# Altium integrated library ECE453-MCU.IntLib: 28 symbols (part 1 of 2)
Pins are listed as number, name and electrical type; pins without a type are passive.

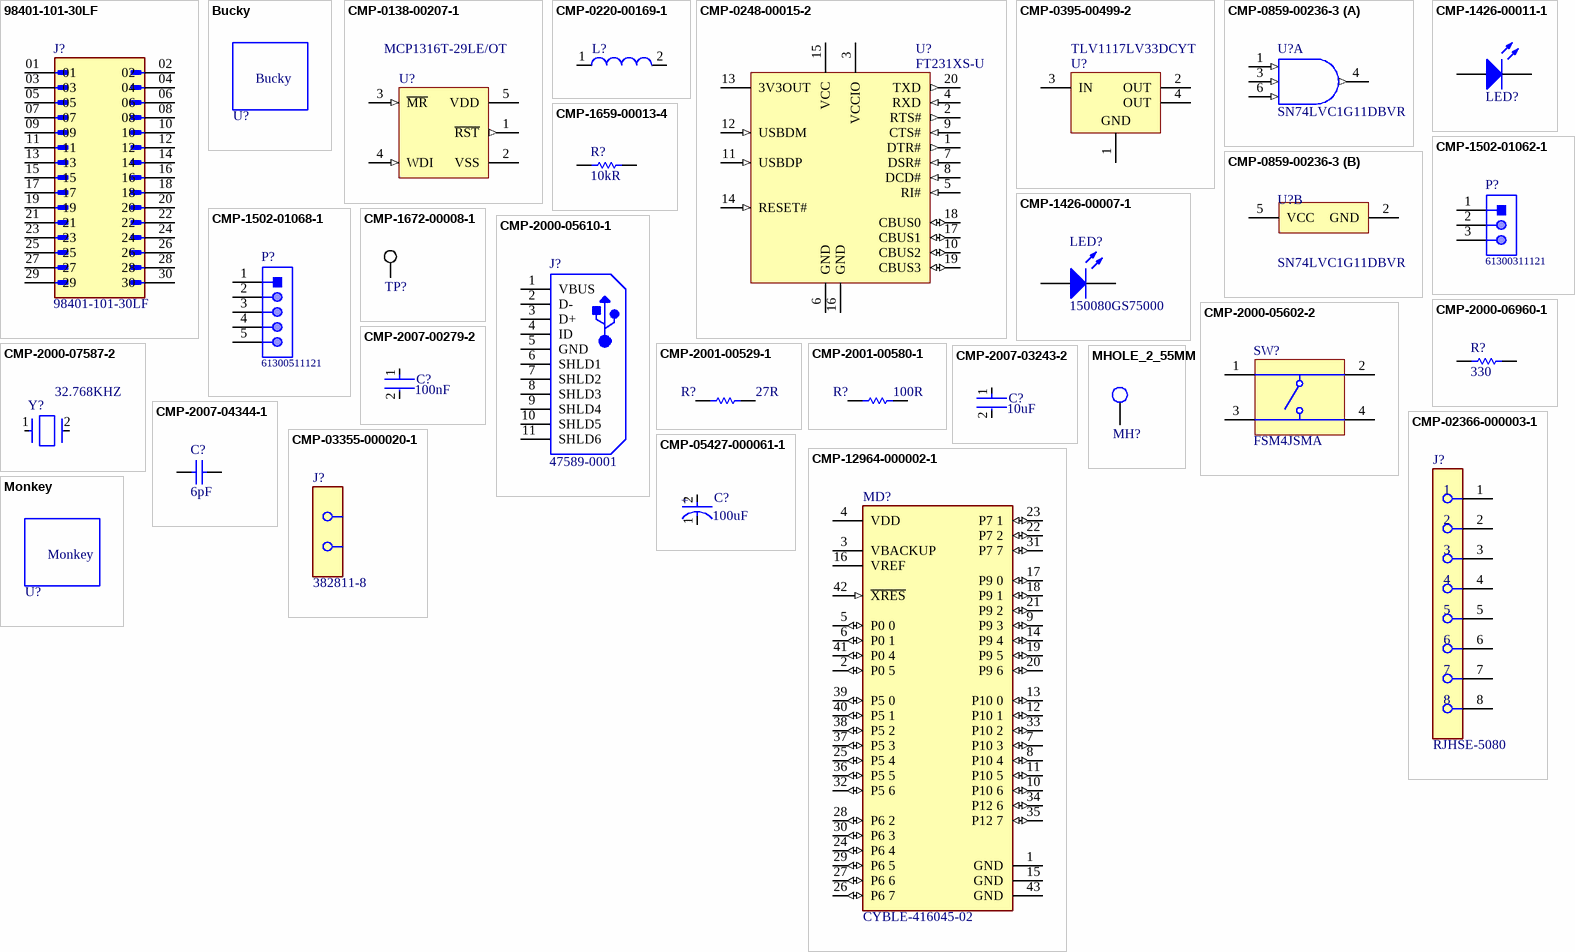
[diagram p0: symbols 98401-101-30LF to Monkey]

## 98401-101-30LF
designator J?
Conn Unshrouded Header HDR 30 POS 2.54mm Solder ST SMD T/R; Manufacturer 1: Amphenol ICC / FCI; Manufacturer Part Number: 95278-101A30LF; MF: Amphenol ICC (FCI); Number of Contacts: 30; Max Voltage Rating (AC): 1.5kV; Current Rating: 3A; Insulation Resistance: 5GR; Row Spacing: 0.1inch; Gender: Male; Package: None; Price: None; Value: *; MP: 98401-101-30LF; Availability: Unavailable; Supplier 1: Digi-Key; Supplier Part Number 1: 98401-101-30LF-ND; Manufacturer Part Number 1: 98401-101-30LF; RoHS: Yes; Category: Headers and Wire Housings; Pricing 1: 400=1.30895 (USD); Mount: Surface Mount; Contact Plating: Gold,GXT; Contact Material: Bronze; Color: Black; Housing Color: Black; Housing Material: Thermoplastic; Min Operating Temperature: -65°C; Max Operating Temperature: 125°C; Number of Rows: 2; Termination: Solder; Package Quantity: 200; Packaging: Bulk; Number of Positions: 30; Orientation: Straight; Series: BERGSTIK®, MezzSelect™, Basics+; Voltage Rating: 1.5kV; Contact Gender: Male; Contact Type: Male Pin; Length: 38.1mm; Pitch: 2.54mm; Depth: 4.83mm; Contact Mating Length: 0.23inch; RoHS Compliant: Yes; Flammability Rating: UL94 V-0; ComponentLink1URL: https://datasheet.ciiva.com/5168/98401-274167-5168660.pdf?src-supplier=Mouser; ComponentLink1Description: https://datasheet.ciiva.com/5168/98401-274167-5168660.pdf?src-supplier=Mouser; ComponentLink2URL: https://datasheet.ciiva.com/10120/98401-10120570.pdf?src-supplier=Avnet; ComponentLink2Description: https://datasheet.ciiva.com/10120/98401-10120570.pdf?src-supplier=Avnet; ComponentLink3URL: https://datasheet.ciiva.com/724/98401-724961.pdf?src-supplier=Digi-Key; ComponentLink3Description: https://datasheet.ciiva.com/724/98401-724961.pdf?src-supplier=Digi-Key; Supplier: Newark; Supplier Part Number: 63K1615; Manufacturer: Amphenol ICC / FCI; Pricing: 370=1.45, 1000=1.44, 2000=1.39, 4000=1.32, 6000=1.3, 10000=1.28 (USD); Mounting Technology: Surface Mount; ComponentLink4URL: https://datasheet.ciiva.com/724/95278-724949.pdf?src-supplier=Digi-Key; ComponentLink4Description: https://datasheet.ciiva.com/724/95278-724949.pdf?src-supplier=Digi-Key
footprint AMPHENOL_98401-101-30LF
pins: 01, 02, 03, 04, 05, 06, 07, 08, 09, 10, 11, 12, 13, 14, 15, 16, 17, 18, 19, 20, 21, 22, 23, 24, 25, 26, 27, 28, 29, 30

## Bucky
designator U?  (value not drawn)  (no BOM)
Bucky Badger Image; Manufacturer Part Number: UW Bucky
footprint WalkingBucky

## CMP-0138-00207-1
designator U?, comment MCP1316T-29LE/OT
Voltage Supervisor, 5-Pin SOT-23, Extended Temperature, Tape and Reel; Manufacturer: Microchip; Min Supply Voltage: 1V; Max Supply Voltage: 5.5V; Number of Voltages Monitored: 1; Overvoltage Threshold: 2.944V; Undervoltage Threshold: 2.857V; Operating Supply Current: 10uA; Reset: Active Low; Reset Timeout: 140ms; Threshold Voltage: 2.9V; Watchdog Timer: Yes; Quiescent Current: 1uA; Max Output current: 10mA; Max Power Dissipation: 240mW; Output: TOTEM-POLE; PackageReference: SOT-23-OT5; Code_IPC: SOT23-5; DatasheetVersion: revB, Oct-2007; PackageDescription: 5-Lead Plastic Small Outline Transistor (OT) [SOT-23]; PackageVersion: revBB, Aug-2009; Supplier: Newark; Supplier Part Number: 34M7402; Manufacturer Part Number: MCP1316T-29LE/OT; RoHS: Yes; Category: Voltage Supervisors; Stock: 8598; Pricing: 1=0.877, 10=0.805, 25=0.732 (USD); Mounting Technology: Surface Mount; Case/Package: SOT-23; Pins: 5; Min Operating Temperature: -40°C; Max Operating Temperature: 125°C; Packaging: Tape and Reel; Type: Simple Reset/Power-On Reset; Package Quantity: 3000; Max Supply Current: 10uA; Max Reset Threshold Voltage: 2.944V; Min Reset Threshold Voltage: 2.857V; Supply Current: 10uA; Number of Elements: 1; Power Dissipation: 240mW; Termination: SMD/SMT; Length: 3.1mm; Width: 1.8mm; Height: 1.3mm; Radiation Hardening: No; Reach SVHC Compliant: No; Lead Free: Lead Free; RoHS Compliant: Yes; ComponentLink1URL: https://datasheet.ciiva.com/1969/21985d-1969832.pdf?src-supplier=Digi-Key; ComponentLink1Description: https://datasheet.ciiva.com/1969/21985d-1969832.pdf?src-supplier=Digi-Key; ComponentLink2URL: https://datasheet.ciiva.com/1969/21985d-1969833.pdf?src-supplier=Digi-Key; ComponentLink2Description: https://datasheet.ciiva.com/1969/21985d-1969833.pdf?src-supplier=Digi-Key; ComponentLink3URL: https://datasheet.ciiva.com/14562/70045388-14562791.pdf?src-supplier=Allied+Electronics; ComponentLink3Description: https://datasheet.ciiva.com/14562/70045388-14562791.pdf?src-supplier=Allied+Electronics; ComponentLink4URL: https://datasheet.ciiva.com/8140/21985c-8140440.pdf?src-supplier=Avnet; ComponentLink4Description: https://datasheet.ciiva.com/8140/21985c-8140440.pdf?src-supplier=Avnet
footprint SOT-23-OT5_M (SOT23, 5-Leads, Body 2.9x1.6mm, Pitch 0.95mm, Lead Span 2.7mm, IPC Low Density)
footprint SOT-23-OT5_N (SOT23, 5-Leads, Body 2.9x1.6mm, Pitch 0.95mm, Lead Span 2.7mm, IPC Medium Density)
footprint SOT-23-OT5_L (SOT23, 5-Leads, Body 2.9x1.6mm, Pitch 0.95mm, Lead Span 2.7mm, IPC High Density)
pins: 1 ~{RST} (out), 2 VSS (power), 3 ~{MR} (in), 4 WDI (in), 5 VDD (power)

## CMP-0220-00169-1
designator L?, comment 742792093  (value not drawn)
SMD EMI Suppression Ferrite Bead WE-CBF, Z = 2200 Ohm; Manufacturer: Wurth Electronics; Current Rating: 200mA; Tolerance: 25%; Number of Lines: 1; DC Resistance (DCR): 600mR; Test Frequency: 100MHz; Value: 3.9nH; Shielding: Unshielded; DatasheetVersion: Dec-2005; ComponentLink2URL: http://www.we-online.de/katalog/media/pdf/742792093.pdf; PackageDescription: Chip Inductor, 2-Leads, Body 2.0 x 1.2 mm; Impedance: 2200 Ohm; ComponentLink2Description: Datasheet; ComponentLink1Description: Manufacturer Link; PackageReference: SMD-0805; ComponentLink1URL: http://www.we-online.com; PackageVersion: 2005; Supplier: Newark; Supplier Part Number: 24AC5609; Manufacturer Part Number: 742792093; RoHS: Yes; Category: Ferrite Beads and Chips; Stock: 32000; Pricing: 1=0.145, 4000=0.145 (USD); Mounting Technology: Surface Mount; Case/Package: SMD/SMT; Case Code (Metric): 2012; Case Code (Imperial): 0805; Core Material: Ferrite; Weight: 0.000388oz; Min Operating Temperature: -55°C; Max Operating Temperature: 125°C; Package Quantity: 1; Packaging: Tape and Reel; Max Current Rating: 200mA; Max DC Current: 200mA; Termination: SMD/SMT; Series: WE-CBF; Length: 2mm; Width: 1.2mm; Height: 0.9mm; Depth: 1.2mm; RoHS Compliant: Yes; Reach SVHC Compliant: Unknown; Lead Free: Lead Free; ComponentLink3URL: https://datasheet.ciiva.com/1475/742792093-1475025.pdf?src-supplier=Farnell; ComponentLink3Description: https://datasheet.ciiva.com/1475/742792093-1475025.pdf?src-supplier=Farnell; ComponentLink4URL: https://datasheet.ciiva.com/1013/742792093-1013376.pdf?src-supplier=Digi-Key; ComponentLink4Description: https://datasheet.ciiva.com/1013/742792093-1013376.pdf?src-supplier=Digi-Key; ComponentLink5URL: https://datasheet.ciiva.com/4940/742792093-88569-4940476.pdf?src-supplier=Mouser; ComponentLink5Description: https://datasheet.ciiva.com/4940/742792093-88569-4940476.pdf?src-supplier=Mouser; ComponentLink6URL: https://datasheet.ciiva.com/11799/0900766b80bbd134-11799557.pdf?src-supplier=Rs; ComponentLink6Description: https://datasheet.ciiva.com/11799/0900766b80bbd134-11799557.pdf?src-supplier=Rs; ComponentLink7URL: https://datasheet.ciiva.com/14122/742792093-eng-tds-14122810.pdf?src-supplier=Distrelec; ComponentLink7Description: https://datasheet.ciiva.com/14122/742792093-eng-tds-14122810.pdf?src-supplier=Distrelec
footprint SMD-0805 (Chip Inductor, 2-Leads, Body 2.0x1.2x1.1 mm)
pins: 1, 2

## CMP-0248-00015-2
designator U?, comment FT231XS-U
USB to Full-Handshake UART Interface Chip, UHCI/OHCI/EHCI Compatible, USB 2.0 Compatible, -40 to +85 degC, 20-Pin SSOP, Pb-Free, Tube; Manufacturer: FTDI; Manufacturer Part Number: FT231XS-R; Interface: UART,USB; Number of Channels: 1; Max Supply Voltage: 5.5V; Min Supply Voltage: 2.97V; Operating Supply Voltage: 5V; Data Rate: 12Mbps; Operating Supply Current: 8mA; Supplier: Newark; Supplier Part Number: 83T7089; RoHS: Yes; Category: Interface ICs; Stock: 31663; Pricing: 1=3.09, 25=2.65, 100=2.58, 250=2.33 (USD); Mounting Technology: Surface Mount; Case/Package: SSOP; Pins: 20; Weight: 0.016oz; Min Operating Temperature: -40°C; Max Operating Temperature: 85°C; Packaging: Tape and Reel; Series: USBmadeEZ-UART, FT-X, X-Chip; Package Quantity: 1; Length: 8.74mm; Width: 0.157inch; Height: 0.059inch; Radiation Hardening: No; RoHS Compliant: Yes; ComponentLink1URL: https://datasheet.ciiva.com/30478/0900766b811020d3-30478147.pdf?src-supplier=Rs; ComponentLink1Description: https://datasheet.ciiva.com/30478/0900766b811020d3-30478147.pdf?src-supplier=Rs; ComponentLink2URL: https://datasheet.ciiva.com/1787/ft-x-series-1787028.pdf?src-supplier=Digi-Key; ComponentLink2Description: https://datasheet.ciiva.com/1787/ft-x-series-1787028.pdf?src-supplier=Digi-Key; ComponentLink3URL: https://datasheet.ciiva.com/1787/ft-x-series-1787029.pdf?src-supplier=Digi-Key; ComponentLink3Description: https://datasheet.ciiva.com/1787/ft-x-series-1787029.pdf?src-supplier=Digi-Key; ComponentLink4URL: https://datasheet.ciiva.com/1787/ft-x-series-1787030.pdf?src-supplier=Digi-Key; ComponentLink4Description: https://datasheet.ciiva.com/1787/ft-x-series-1787030.pdf?src-supplier=Digi-Key; ComponentLink5URL: https://datasheet.ciiva.com/48909/70403932-48909078.pdf?src-supplier=Allied+Electronics; ComponentLink5Description: https://datasheet.ciiva.com/48909/70403932-48909078.pdf?src-supplier=Allied+Electronics; Manufacturer Part Number: FT231XS-U
footprint SSOP-20_L (SOP, 20-Leads, Body 8.6x3.9mm, Pitch 0.635mm, IPC High Density)
footprint SSOP-20_M (SOP, 20-Leads, Body 8.6x3.9mm, Pitch 0.635mm, IPC Low Density)
footprint SSOP-20_N (SOP, 20-Leads, Body 8.6x3.9mm, Pitch 0.635mm, IPC Medium Density)
pins: 1 DTR# (out) "Data Terminal Ready Control Output / Handshake Signal.", 2 RTS# (out) "Request to Send Control Output / Handshake Signal.", 3 VCCIO (power) "1V8 -3V3 supply for the IO cells.", 4 RXD (in) "Receiving Asynchronous Data Input.", 5 RI# (in) "Ring Indicator input for remote wake up.", 6 GND (power) "0V Ground input.", 7 DSR# (in) "Data Set Ready Control Input / Handshake Signal.", 8 DCD# (in) "Data Carrier Detect Control Input.", 9 CTS# (in) "Clear To Send Control Input / Handshake Signal.", 10 CBUS2 (io) "Configurable CBUS I/O Pin. Function of this pin is configured in the device MTP memory. The default configuration is TXLED#.", 11 USBDP (in) "USB Data Signal Plus.", 12 USBDM (in) "USB Data Signal Minus.", 13 3V3OUT (power) "3V3 output at 50mA. May be used to power VCCIO. When VCC is 3V3, pin 13 is an input pin.", 14 RESET# (in) "Reset input (active low).", 15 VCC (power) "5 V (or 3V3) supply to IC.", 16 GND (power) "0V Ground input.", 17 CBUS1 (io) "Configurable CBUS I/O Pin. Function of this pin is configured in the device MTP memory. The default configuration is RXLED#.", 18 CBUS0 (io) "Configurable CBUS I/O Pin. Function of this pin is configured in the device MTP memory. The default configuration is TXDEN.", 19 CBUS3 (io) "Configurable CBUS I/O Pin. Function of this pin is configured in the device MTP memory. The default configuration is SLEEP#.", 20 TXD (out) "Transmit Asynchronous Data Output."

## CMP-0395-00499-2
designator U?, comment TLV1117LV33DCYT
Single Output LDO, 1 A, Fixed 3.3 V Output, 2 to 5.5 V Input, 4-pin SOT-223 (DCY), -40 to 125 degC, Green (RoHS & no Sb/Br); Manufacturer: Texas Instruments; Manufacturer Part Number: TLV1117-33CDCYR; Vout Adj(Max)(V): 3.3; Iout(Max)(A): 1; SubFamily: Single Channel LDO; Iq(Typ)(mA): 0.05; Accuracy(%): 2; Vin(Max)(V): 5.5; Vdo(Typ)(mV): 1200; Max Power Dissipation: 1.59W; Dropout Voltage: 455mV; Output Voltage: 3.3V; Output Current: 1A; Max Input Voltage: 5.5V; Min Input Voltage: 2V; Min Current Limit: 1.1A; Polarity: Positive; Quiescent Current: 50uA; Output Voltage Accuracy: 1.5%; Accuracy: 2%; Power Supply Rejection Ratio (PSRR): 75dB; Max Supply Voltage: 15V; PartNumber: TLV1117LV33DCYT; PackageReference: DCY0004A; PackageVersion: 4202506/B; ComponentLink1URL: http://www.ti.com/; DatasheetVersion: SBVS160A; Mounting Technology: Surface Mount; Fixed Output Options(V): 3.3; ComponentLink3Description: Package Specification; PackageDescription: 4-Pin Plastic Small Outline, Body 3.5 x 6.5 mm, Pitch 2.3 mm; Vout Adj(Min)(V): 3.3; ComponentLink2URL: http://www.ti.com/general/docs/lit/getliterature.tsp?genericPartNumber=TLV1117LV33&fileType=pdf; Code_JEDEC: TO-261; ComponentLink1Description: Manufacturer URL; Vin(Min)(V): 2; ComponentLink2Description: Datasheet; Eco-Plan: Green (RoHS & no Sb/Br); ComponentLink3URL: http://www.ti.com/litv/pdf/mpds094a; Supplier 1: Digi-Key; Supplier Part Number 1: 296-35976-1-ND; Manufacturer 1: Texas Instruments; Manufacturer Part Number 1: TLV1117LV33DCYT; RoHS: Yes; Category: Voltage Regulators - Linear; Stock 1: 1411; Pricing 1: 1=1.15000, 10=1.02600, 25=0.97360, 100=0.79970 (USD); Case/Package: SOT-223; Number of Pins: 4; Contact Plating: Tin; Min Operating Temperature: -40°C; Max Operating Temperature: 125°C; Package Quantity: 250; Packaging: Tape and Reel; Number of Outputs: 1; Nominal Output Voltage: 3.3V; Max Output Current: 1A; Number of Regulators: 1; Power Dissipation: 1.59W; Max Output Voltage: 3.3V; Min Output Voltage: 3.3V; Output Type: Fixed; Series: -; Output Configuration: Positive; Radiation Hardening: No; Reach SVHC Compliant: Yes; Lead Free: Lead Free; RoHS Compliant: Yes; ComponentLink4URL: http://www.ti.com/general/docs/lit/getliterature.tsp?genericPartNumber=TLV1117LV&&fileType=pdf&src-supplier=Farnell; ComponentLink4Description: http://www.ti.com/general/docs/lit/getliterature.tsp?genericPartNumber=TLV1117LV&&fileType=pdf&src-supplier=Farnell; ComponentLink5URL: http://www.farnell.com/datasheets/1950591.pdf?src-supplier=Element14; ComponentLink5Description: http://www.farnell.com/datasheets/1950591.pdf?src-supplier=Element14; ComponentLink6URL: http://www.ti.com/lit/ds/symlink/tlv1117lv.pdf?src-supplier=Digi-Key; ComponentLink6Description: http://www.ti.com/lit/ds/symlink/tlv1117lv.pdf?src-supplier=Digi-Key; ComponentLink7URL: http://www.ti.com/general/docs/suppproductinfo.tsp?distId=10&amp;gotoUrl=http%3A%2F%2Fwww.ti.com%2Flit%2Fgpn%2Ftlv1117lv&src-supplier=Digi-Key; ComponentLink7Description: http://www.ti.com/general/docs/suppproductinfo.tsp?distId=10&amp;gotoUrl=http%3A%2F%2Fwww.ti.com%2Flit%2Fgpn%2Ftlv1117lv&src-supplier=Digi-Key; ComponentLink8URL: http://www.ti.com/lit/gpn/tlv1117lv?src-supplier=Mouser; ComponentLink8Description: http://www.ti.com/lit/gpn/tlv1117lv?src-supplier=Mouser; ComponentLink9URL: http://www.ti.com/general/docs/lit/getliterature.tsp?genericPartNumber=TLV1117LV&&fileType=pdf&src-supplier=Avnet; ComponentLink9Description: http://www.ti.com/general/docs/lit/getliterature.tsp?genericPartNumber=TLV1117LV&&fileType=pdf&src-supplier=Avnet; ComponentLink10URL: http://components.arrow.com/part/dataview/51117919S8954709N7713?src-supplier=Arrow+Electronics; ComponentLink10Description: http://components.arrow.com/part/dataview/51117919S8954709N7713?src-supplier=Arrow+Electronics; Supplier: Newark; Supplier Part Number: 29AH1523; Pricing: 1=0.965, 10=0.923, 25=0.877, 50=0.839, 100=0.803, 250=0.777, 500=0.759, 1000=0.746 (USD); Pins: 3; ComponentLink11URL: http://www.ti.com/general/docs/lit/getliterature.tsp?genericPartNumber=TLV1117-33&amp;&amp;fileType=pdf&src-supplier=Newark; ComponentLink11Description: http://www.ti.com/general/docs/lit/getliterature.tsp?genericPartNumber=TLV1117-33&amp;&amp;fileType=pdf&src-supplier=Newark; ComponentLink12URL: http://www.ti.com/general/docs/suppproductinfo.tsp?distId=10&amp;gotoUrl=http%3A%2F%2Fwww.ti.com%2Flit%2Fgpn%2Ftlv1117&src-supplier=Digi-Key; ComponentLink12Description: http://www.ti.com/general/docs/suppproductinfo.tsp?distId=10&amp;gotoUrl=http%3A%2F%2Fwww.ti.com%2Flit%2Fgpn%2Ftlv1117&src-supplier=Digi-Key
footprint DCY0004A_M (SOT223, 4-Leads, Body 6.7x3.7mm, Pitch 2.3mm, IPC Low Density)
footprint DCY0004A_L (SOT223, 4-Leads, Body 6.7x3.7mm, Pitch 2.3mm, IPC High Density)
footprint DCY0004A_N (SOT223, 4-Leads, Body 6.7x3.7mm, Pitch 2.3mm, IPC Medium Density)
pins: 1 GND (power) "Ground pin", 2 OUT (power) "Regulated output voltage pin.", 3 IN (power) "Input pin.", 4 OUT (power) "Regulated output voltage pin."

## CMP-0859-00236-3
designator U?, comment SN74LVC1G11DBVR
Single 3-Input Positive-AND Gate, DBV0006A, LARGE T&R; Manufacturer: Texas Instruments; Output Type: CMOS; Voltage(Nom)(V): 1.8,2.5,3.3,5; ICC @ Nom Voltage(Max)(mA): 0.01; VCC(Min)(V): 1.65; Output Drive (IOL/IOH)(Max)(mA): 32/-32; Schmitt Trigger: No; Input Type: CMOS/TTL; VCC(Max)(V): 5.5; Gate Type: AND; Rating: Catalog; tpd @ Nom Voltage(Max)(ns): 20,7.8,6.2,4.6; Bits(#): 1; F @ Nom Voltage(Max)(Mhz): 150; Logic: True; Technology Family: LVC; Number of Inputs: 3; Propagation Delay: 3.5ns; Min Supply Voltage: 1.65V; Max Supply Voltage: 5.5V; Quiescent Current: 10uA; High Level Output Current: -32mA; Low Level Output Current: 32mA; Turn-On Delay Time: 4.9ns; Sub-Family: AND Gate; PackageReference: DBV0006A; Operating Temperature Range(C): -40 to 125,-40 to 85; DatasheetVersion: SCES487F; 3-State Output: No; Generic Part Number: SN74LVC1G11; Supplier: Newark; Supplier Part Number: 29AH7598; Manufacturer Part Number: SN74LVC1G11DBVR; RoHS: Yes; Category: Logic Gates; Pricing: 1=0.398, 5=0.398, 10=0.326, 25=0.298, 50=0.26, 100=0.221, 250=0.211, 500=0.206, 1000=0.203 (USD); Mounting Technology: Surface Mount; Case/Package: SOT-23; Pins: 6; Weight: 0.000229oz; Min Operating Temperature: -40°C; Max Operating Temperature: 125°C; Packaging: Tape and Reel; Logic Function: AND GATE; Number of Outputs: 1; Number of Elements: 1; Number of Circuits: 1; Number of Input Lines: 3; Number of Output Lines: 1; Number of Bits: 1; Series: 74LVC; Technology: CMOS; Number of Gates: 1; Termination: SMD/SMT; Max Output current: 32mA; Output Current: 32mA; Radiation Hardening: No; Lead Free: Lead Free; RoHS Compliant: Yes; Reach SVHC Compliant: No; ComponentLink1URL: https://datasheet.ciiva.com/1864/sn74lvc1g11-1864480.pdf?src-supplier=Digi-Key; ComponentLink1Description: https://datasheet.ciiva.com/1864/sn74lvc1g11-1864480.pdf?src-supplier=Digi-Key; ComponentLink2URL: https://datasheet.ciiva.com/6124/1775276-6124474.pdf?src-supplier=Farnell; ComponentLink2Description: https://datasheet.ciiva.com/6124/1775276-6124474.pdf?src-supplier=Farnell; ComponentLink3URL: https://datasheet.ciiva.com/1864/sn74lvc1g11-1864479.pdf?src-supplier=Digi-Key; ComponentLink3Description: https://datasheet.ciiva.com/1864/sn74lvc1g11-1864479.pdf?src-supplier=Digi-Key; ComponentLink4URL: https://datasheet.ciiva.com/1864/sn74lvc1g11-1864481.pdf?src-supplier=Digi-Key; ComponentLink4Description: https://datasheet.ciiva.com/1864/sn74lvc1g11-1864481.pdf?src-supplier=Digi-Key; ComponentLink5URL: https://datasheet.ciiva.com/14290/sn74lvc1g11-14290741.pdf?src-supplier=Avnet; ComponentLink5Description: https://datasheet.ciiva.com/14290/sn74lvc1g11-14290741.pdf?src-supplier=Avnet; ComponentLink6URL: https://datasheet.ciiva.com/46384/1882071-46384382.pdf?src-supplier=Element14; ComponentLink6Description: https://datasheet.ciiva.com/46384/1882071-46384382.pdf?src-supplier=Element14; ComponentLink7URL: https://datasheet.ciiva.com/7783/1775276-7783594.pdf?src-supplier=Element14; ComponentLink7Description: https://datasheet.ciiva.com/7783/1775276-7783594.pdf?src-supplier=Element14; ComponentLink8URL: https://datasheet.ciiva.com/7783/1775276-7783595.pdf?src-supplier=Element14; ComponentLink8Description: https://datasheet.ciiva.com/7783/1775276-7783595.pdf?src-supplier=Element14
footprint DBV0006A_N (SOT23, 6-Leads, Body 3.05x1.75mm, Pitch 0.95mm, IPC Medium Density)
footprint DBV0006A_L (SOT23, 6-Leads, Body 3.05x1.75mm, Pitch 0.95mm, IPC High Density)
footprint DBV0006A_M (SOT23, 6-Leads, Body 3.05x1.75mm, Pitch 0.95mm, IPC Low Density)
part A pins: 1 A (in), 3 B (in), 4 Y (out), 6 C (in)
part B pins: 2 GND (power), 5 VCC (power)

## CMP-1426-00007-1
designator LED?, comment 150080GS75000
SMD mono-color Chip LED, WL-SMCW, Green; Manufacturer: Wuerth Elektronik; Manufacturer 1: Wurth Electronics; Viewing Angle: 140°; Lens Style: Clear,Rectangular; Luminous Intensity: 450mcd; Forward Voltage: 3.2V; Wavelength: 520nm; Forward Current: 30mA; Test Current: 20mA; Lens Color: Colorless; Lens Transparency: Clear; Lens Size: 1.25mm; PackageReference: 0805_A; Color: Green; PartNumber: 150080GS75000; ComponentLink2URL: http://katalog.we-online.com/led/datasheet/150080GS75000.pdf; ComponentLink1URL: http://www.we-online.com; ComponentLink1Description: Manufacturer URL; ComponentLink2Description: Datasheet; Supplier 1: Digi-Key; Supplier Part Number 1: 732-4983-1-ND; Manufacturer Part Number 1: 150080GS75000; RoHS: Yes; Category: LEDs; Stock 1: 95801; Pricing 1: 1=0.19000, 50=0.17600, 100=0.15100, 500=0.13100 (USD); Mount: Surface Mount; Case/Package: 0805; Case Code (Metric): 2012; Case Code (Imperial): 0805; Min Operating Temperature: -40°C; Max Operating Temperature: 85°C; Package Quantity: 4000; Packaging: Cut Tape; Dominant Wavelength: 520nm; Length: 2mm; Width: 1.25mm; Height: 0.7mm; REACH SVHC: Unknown; RoHS Compliant: Yes; ComponentLink3URL: https://datasheet.ciiva.com/29563/150080gs75000-29563008.pdf?src-supplier=Digi-Key; ComponentLink3Description: https://datasheet.ciiva.com/29563/150080gs75000-29563008.pdf?src-supplier=Digi-Key; ComponentLink4URL: https://datasheet.ciiva.com/29279/759434-da-01-en-chipled-0805-w-kl-gruen-150080gs75000-29279039.pdf?src-supplier=Conrad; ComponentLink4Description: https://datasheet.ciiva.com/29279/759434-da-01-en-chipled-0805-w-kl-gruen-150080gs75000-29279039.pdf?src-supplier=Conrad; Supplier: Newark; Supplier Part Number: 95W3800; Manufacturer Part Number: 150080GS75000; Stock: 59977; Pricing: 1=0.194, 5=0.194, 10=0.191, 25=0.186, 50=0.18, 100=0.154, 500=0.141 (USD); Mounting Technology: Surface Mount; Series: WL-SMCW; Reach SVHC Compliant: Unknown
footprint 0805_A (Chip LED, 2-Leads, Body 2.0x1.3mm, IPC Medium Density)
pins: 1 K, 2 A

## CMP-1426-00011-1
designator LED?, comment 150080RS75000  (value not drawn)
SMD mono-color Chip LED, WL-SMCW, Red; Manufacturer: Wuerth Elektronik; Manufacturer 1: Wurth Electronics; Luminous Intensity: 150mcd; Viewing Angle: 140°; Forward Voltage: 2V; Lens Style: Clear,Rectangular; Forward Current: 30mA; Dominant Wavelength: 625nm; Test Current: 20mA; Lens Color: Colorless; Lens Transparency: Clear; Lens Size: 1.25mm; Color: Red; PartNumber: 150080RS75000; PackageReference: 0805_A; ComponentLink2Description: Datasheet; ComponentLink1URL: http://www.we-online.com; ComponentLink1Description: Manufacturer URL; ComponentLink2URL: http://katalog.we-online.com/led/datasheet/150080RS75000.pdf; Supplier 1: Digi-Key; Supplier Part Number 1: 732-4984-1-ND; Manufacturer Part Number 1: 150080RS75000; RoHS: Yes; Category: LEDs; Stock 1: 100282; Pricing 1: 1=0.19000, 50=0.17600, 100=0.15100, 500=0.13100 (USD); Mount: Surface Mount; Case/Package: 0805; Case Code (Metric): 2012; Case Code (Imperial): 0805; Min Operating Temperature: -40°C; Max Operating Temperature: 85°C; Packaging: Tape and Reel; Wavelength: 625nm; Package Quantity: 4000; Length: 2mm; Width: 1.25mm; Height: 0.7mm; RoHS Compliant: Yes; REACH SVHC: Unknown; ComponentLink3URL: https://datasheet.ciiva.com/22656/150080rs75000-22656961.pdf?src-supplier=Element14; ComponentLink3Description: https://datasheet.ciiva.com/22656/150080rs75000-22656961.pdf?src-supplier=Element14; ComponentLink4URL: https://datasheet.ciiva.com/29279/759435-da-01-en-chipled-0805-w-kl-rot-150080rs75000-29279032.pdf?src-supplier=Conrad; ComponentLink4Description: https://datasheet.ciiva.com/29279/759435-da-01-en-chipled-0805-w-kl-rot-150080rs75000-29279032.pdf?src-supplier=Conrad; Supplier: Newark; Supplier Part Number: 95W3801; Manufacturer Part Number: 150080RS75000; Stock: 14062; Pricing: 1=0.194, 5=0.194, 10=0.191, 25=0.186, 50=0.18, 100=0.154 (USD); Mounting Technology: Surface Mount; Series: WL-SMCW; Reach SVHC Compliant: Unknown
footprint 0805_A (Chip LED, 2-Leads, Body 2.0x1.3mm, IPC Medium Density)
pins: 1 K, 2 A

## CMP-1502-01062-1
designator P?, comment 61300311121
THT Vertical Pin Header WR-PHD, Pitch 2.54 mm, Single Row, 3 pins; Manufacturer: Wurth Elektronik; Manufacturer 1: Wurth Electronics; Withstanding Voltage: 500VAC; Working Voltage: 250VAC; Rated Current: 3A; Pitch: 2.54mm; Pin Number: 3; Gender: Male; Contact Resistance: 20mOhm; Package Reference: 61300311121; Manufacturer URL: http://www.we-online.de; Datasheet URL: https://katalog.we-online.de/em/datasheet/6130xx11121.pdf; Operating Temperature: -40to105degC; Part Number: 61300311121; Orientation: Vertical; Packaging: Bag; Row Number: Single; Mounting Technology: THT; Publisher: WurthElektronik; Supplier 1: Digi-Key; Supplier Part Number 1: 732-5316-ND; Manufacturer Part Number 1: 61300311121; RoHS: Yes; Category: Connectors; Stock 1: 225106; Pricing 1: 1=0.13, 10=0.113, 25=0.094, 50=0.079, 100=0.071, 1000=0.066 (USD); Mount: Through Hole; Contact Plating: Gold; Contact Material: Copper; Color: Black; Number of Rows: 1; Number of Positions: 3; Termination: Solder; Number of Contacts: 3; Series: WR-PHD; Contact Type: Male Pin; Contact Mating Length: 0.236inch; Lead Free: Lead Free; RoHS Compliant: Yes; Reach SVHC Compliant: Unknown; ComponentLink1URL: http://www.farnell.com/cad/1737268.pdf?src-supplier=Element14; ComponentLink1Description: http://www.farnell.com/cad/1737268.pdf?src-supplier=Element14; ComponentLink2URL: https://katalog.we-online.de/em/datasheet/6130xx11121.pdf?src-supplier=Digi-Key; ComponentLink2Description: https://katalog.we-online.de/em/datasheet/6130xx11121.pdf?src-supplier=Digi-Key; Supplier: Newark; Supplier Part Number: 20X0950; Manufacturer Part Number: 61300311121; Stock: 65141; Pricing: 1=0.133, 10=0.115, 25=0.096, 50=0.081, 100=0.072 (USD); ComponentLink3URL: https://datasheet.octopart.com/61300311121-W%C3%BCrth-Elektronik-datasheet-21154836.pdf?src-supplier=Element14; ComponentLink3Description: https://datasheet.octopart.com/61300311121-W%C3%BCrth-Elektronik-datasheet-21154836.pdf?src-supplier=Element14
footprint 61300311121 (Pin Header, pitch 2.54 mm, THT, Vertical, single row, 3p)
pins: 1, 2, 3

## CMP-1502-01068-1
designator P?, comment 61300511121
THT Vertical Pin Header WR-PHD, Pitch 2.54 mm, Single Row, 5 pins; Manufacturer: Wurth Elektronik; Manufacturer 1: Wurth Electronics; Pin Number: 5; Contact Resistance: 20mOhm; Working Voltage: 250VAC; Pitch: 2.54mm; Withstanding Voltage: 500VAC; Rated Current: 3A; Gender: Male; Connector Type: Male Pin; Datasheet URL: https://katalog.we-online.de/em/datasheet/6130xx11121.pdf; Orientation: Vertical; Mounting Technology: THT; Row Number: Single; Package Reference: 61300511121; Publisher: WurthElektronik; Part Number: 61300511121; Packaging: Bag; Manufacturer URL: http://www.we-online.de; Operating Temperature: -40to105degC; Supplier 1: Digi-Key; Supplier Part Number 1: 732-5318-ND; Manufacturer Part Number 1: 61300511121; RoHS: Yes; Category: Headers and Wire Housings; Stock 1: 41302; Pricing 1: 1=0.26000, 10=0.22200, 25=0.18520, 50=0.15500, 100=0.14100, 1000=0.12800 (USD); Mount: Through Hole; Contact Plating: Gold; Contact Material: Copper; Color: Black; Number of Rows: 1; Termination: Solder; Number of Contacts: 5; Number of Positions: 5; Contact Mating Length: 0.236inch; RoHS Compliant: Yes; REACH SVHC: Unknown; Lead Free: Lead Free; ComponentLink1URL: http://www.farnell.com/cad/1737268.pdf?src-supplier=Element14; ComponentLink1Description: http://www.farnell.com/cad/1737268.pdf?src-supplier=Element14; ComponentLink2URL: https://katalog.we-online.de/em/datasheet/6130xx11121.pdf?src-supplier=Digi-Key; ComponentLink2Description: https://katalog.we-online.de/em/datasheet/6130xx11121.pdf?src-supplier=Digi-Key; Supplier: Newark; Supplier Part Number: 20X0955; Manufacturer Part Number: 61300511121; Stock: 4184; Pricing: 1=0.265, 10=0.226, 25=0.189, 50=0.158, 100=0.144 (USD); Series: WR-PHD; Contact Type: Male Pin; Reach SVHC Compliant: Unknown
footprint 61300511121 (Pin Header, pitch 2.54 mm, THT, Vertical, single row, 5p)
pins: 1, 2, 3, 4, 5

## CMP-1659-00013-4
designator R?, comment Resistance: 10kR  (hidden comment: RC0805FR-0710KL)
Chip Resistor, 10 KOhm, +/- 1%, 0.125 W, -55 to 155 degC, 0805 (2012 Metric), RoHS, Tape and Reel; Manufacturer: Yageo; Voltage Rating: 150 V; Temperature Coefficient: 100ppm/°C; Power Rating: 125mW; Value: 10kR; Mount: Surface Mount; ComponentLink1Description: Manufacturer URL; ComponentLink2URL: http://www.yageo.com/documents/recent/PYu-RC_Group_51_RoHS_L_04.pdf; Pins: 2; Length: 2 mm; Min Operating Temperature: -55 degC; Height: 0.5 mm; Mounting Technology: Surface Mount; RoHSCompliant: true; REACH SVHC: No SVHC; ComponentLink1URL: http://www.yageo.com/; Max Operating Temperature: 155 degC; PackageReference: 0805; DatasheetVersion: Rev. 4, 02/2016; Package Quantity: 5000; Packaging: Tape and Reel; ComponentLink2Description: Datasheet; PackageDescription: 2-Pin Surface Mounted Device, Body 2 x 1.25 mm; Supplier 1: Digi-Key; Supplier Part Number 1: 311-10.0KCRCT-ND; Manufacturer 1: Yageo; Manufacturer Part Number 1: RC0805FR-0710KL; RoHS: Yes; Category: Chip SMD Resistors; Stock 1: 5682818; Pricing 1: 1=0.10000, 10=0.03800, 100=0.01560, 1000=0.00702, 2500=0.00610 (USD); Case/Package: 0805; Case Code (Imperial): 0805; Case Code (Metric): 2012; Size Code: 0805; Tolerance: 1%; Resistor Type: Thick Film; Series: RC; Number of Terminations: 2; Max Power Dissipation: 125mW; Termination: SMD/SMT; Features: Moisture Resistant; Construction: Rectangular; Resistance Tolerance: 1%; Technology: THICK FILM; Width: 0.049inch; Depth: 1.25mm; RoHS Compliant: Yes; Military Standard: Not; Lead Free: Lead Free; ComponentLink3URL: https://datasheet.ciiva.com/11808/0900766b8106beab-11808151.pdf?src-supplier=RSComponents; ComponentLink3Description: https://datasheet.ciiva.com/11808/0900766b8106beab-11808151.pdf?src-supplier=RSComponents; ComponentLink4URL: https://datasheet.ciiva.com/46447/444164-46447563.pdf?src-supplier=Element14; ComponentLink4Description: https://datasheet.ciiva.com/46447/444164-46447563.pdf?src-supplier=Element14; ComponentLink5URL: https://datasheet.ciiva.com/2456/pyu-r-int-thick-7-2456973.pdf?src-supplier=Digi-Key; ComponentLink5Description: https://datasheet.ciiva.com/2456/pyu-r-int-thick-7-2456973.pdf?src-supplier=Digi-Key; ComponentLink6URL: https://datasheet.ciiva.com/2456/pyu-r-int-thick-7-2456974.pdf?src-supplier=Digi-Key; ComponentLink6Description: https://datasheet.ciiva.com/2456/pyu-r-int-thick-7-2456974.pdf?src-supplier=Digi-Key; ComponentLink7URL: https://datasheet.ciiva.com/2456/pyu-r-int-thick-7-2456972.pdf?src-supplier=Digi-Key; ComponentLink7Description: https://datasheet.ciiva.com/2456/pyu-r-int-thick-7-2456972.pdf?src-supplier=Digi-Key; ComponentLink8URL: https://datasheet.ciiva.com/12669/rc0805-12669688.pdf?src-supplier=Mouser; ComponentLink8Description: https://datasheet.ciiva.com/12669/rc0805-12669688.pdf?src-supplier=Mouser; ComponentLink9URL: https://datasheet.ciiva.com/16747/rc0805-16747087.pdf?src-supplier=Future+Electronics; ComponentLink9Description: https://datasheet.ciiva.com/16747/rc0805-16747087.pdf?src-supplier=Future+Electronics; Supplier: Newark; Supplier Part Number: 05M4535; Manufacturer Part Number: RC0805FR-0710KL; Stock: 346650; Pricing: 1=0.102, 10=0.035, 25=0.028, 50=0.021, 100=0.014 (USD); Reach SVHC Compliant: Unknown; ComponentLink10URL: https://datasheet.ciiva.com/11808/0900766b8106beab-11808151.pdf?src-supplier=Rs; ComponentLink10Description: https://datasheet.ciiva.com/11808/0900766b8106beab-11808151.pdf?src-supplier=Rs
footprint RESC2013X60X35NL10T20 (Chip Resistor, 2-Leads, Body 2.1x1.35mm, IPC Medium Density)
footprint RESC2013X60X35LL10T20 (Chip Resistor, 2-Leads, Body 2.1x1.35mm, IPC High Density)
footprint RESC2013X60X35ML10T20 (Chip Resistor, 2-Leads, Body 2.1x1.35mm, IPC Low Density)
pins: 1, 2

## CMP-1672-00008-1
designator TP?, comment 5019  (value not drawn)
Test Point, 1 Position SMD, RoHS, Tape and Reel; Manufacturer: Keystone Electronics; Plating: Silver; Body Material: Bronze; Supplier: Newark; Supplier Part Number: 59Y8500; Manufacturer Part Number: 5019; RoHS: Yes; Category: Connectors; Stock: 11269; Pricing: 1=0.411, 10=0.389, 25=0.285, 50=0.279, 100=0.273, 250=0.246 (USD); Mounting Technology: Surface Mount,PCB; Pins: 1; Contact Plating: Silver; Contact Material: Bronze; Material: Bronze; Packaging: Tape and Reel; Package Quantity: 1; Termination: SMD/SMT; Series: 5019; Height: 0.09inch; Reach SVHC Compliant: No; RoHS Compliant: Yes; Lead Free: Lead Free; ComponentLink1URL: https://datasheet.ciiva.com/14848/m60-2p61-14848437.pdf?src-supplier=Digi-Key; ComponentLink1Description: https://datasheet.ciiva.com/14848/m60-2p61-14848437.pdf?src-supplier=Digi-Key; ComponentLink2URL: https://datasheet.ciiva.com/14848/m60-2p61-14848438.pdf?src-supplier=Digi-Key; ComponentLink2Description: https://datasheet.ciiva.com/14848/m60-2p61-14848438.pdf?src-supplier=Digi-Key; ComponentLink3URL: https://datasheet.ciiva.com/14848/m60-2p61-14848439.pdf?src-supplier=Digi-Key; ComponentLink3Description: https://datasheet.ciiva.com/14848/m60-2p61-14848439.pdf?src-supplier=Digi-Key; ComponentLink4URL: https://datasheet.ciiva.com/16318/m60-2p61-16318395.pdf?src-supplier=Future+Electronics; ComponentLink4Description: https://datasheet.ciiva.com/16318/m60-2p61-16318395.pdf?src-supplier=Future+Electronics; ComponentLink5URL: https://datasheet.ciiva.com/16885/70182998-16885945.pdf?src-supplier=Allied+Electronics; ComponentLink5Description: https://datasheet.ciiva.com/16885/70182998-16885945.pdf?src-supplier=Allied+Electronics
footprint KSTN-5019_V (Test Point, 1-Leads, Body 3.81x2.03mm)
pins: 1

## CMP-2000-05602-2
designator SW?, comment FSM4JSMA
Swicth, SPST, 24 V, -35 to 85 degC, 4-Pin SMD, RoHS, Tape and Reel; Manufacturer: TE Connectivity; Switch Travel: 0.25mm; Mechanical Life: 100000Cycles; Contact Current Rating: 50mA; Operating Force: 1.57N; Actuator Material: Polyamide; Contact Resistance: 100mOhm; Voltage Rating: 24V; Illumination Type: Illuminated; Actuator Length: 0.055inch; Max Voltage Rating (DC): 12V; Case\/Package: SMD/SMT; Switch Function: Off-Mom; Actuator Type: Standard; Insulation Resistance: 100MR; Orientation: Straight; Datasheet URL: http://www.te.com/commerce/DocumentDelivery/DDEController?Action=showdoc&DocId=Customer+Drawing%7F2-1437565-7%7FV%7Fpdf%7FEnglish%7FENG_CD_2-1437565-7_V.pdf%7F4-1437565-2; Min Operating Temperature: -35degC; Packaging: LoosePiece; Termination: GullWing; Throw Configuration: SPST; Package Description: 4-Pin Surface Mount Device, Body 6 x 6 mm, Pitch 4.5 mm; Mounting Technology: SurfaceMount; Contact Plating: Silver; Datasheet Version: Rev. V, 02/2015; RoHSCompliant: true; Max Operating Temperature: 85degC; Length: 6mm; Voltage Rating (DC): 24V; Electrical Life: 100000Cycles; Current Rating: 50mA; Package Quantity: 750; Mount: SurfaceMount; Package Reference: FSM4JSMA; Manufacturer URL: http://www.te.com/; Width: 6mm; REACH SVHC: Unknown; Contact Material: CopperAlloy; Supplier 1: Digi-Key; Supplier Part Number 1: 450-1129-ND; Manufacturer 1: TE Connectivity; Manufacturer Part Number 1: FSM4JSMA; RoHS: Yes; Category: Pushbutton Switches; Stock 1: 65608; Pricing 1: 1=0.27000, 10=0.26300, 25=0.24960, 100=0.22600, 250=0.20604, 750=0.19152, 1500=0.16339, 3000=0.15885, 5250=0.14977 (USD); Case/Package: SMD/SMT; Color: Black; Series: FSMJSMA; Max Current Rating: 50mA; Depth: 10mm; Radiation Hardening: No; RoHS Compliant: Yes; Lead Free: Lead Free; ELV: Compliant; Supplier: Newark; Supplier Part Number: 27AC5877; Manufacturer Part Number: FSM4JSMA; Stock: 46743; Pricing: 1=0.292, 10=0.274, 25=0.255, 100=0.232, 500=0.2, 1000=0.166 (USD); Reach SVHC Compliant: Unknown
footprint TECO-FSM4JSMA_V (SMD, 4-Leads, Body 6x6mm, Pitch 4.5mm)
pins: 1, 2, 3, 4

## CMP-2000-05610-1
designator J?, comment 47589-0001
Right Angle Female Type AB Micro USB Connector, 30 V, 1.8 A, -30 to 85 degC, RoHS, Tape and Reel; Manufacturer: Molex; Voltage Rating: 30V; Contact Resistance: 40mR; Current Rating: 1.8A; Max Voltage Rating (AC): 100V; Connector Type: USB,Receptacle; Number of Ports: 1; Number of Contacts: 5; USB Standard: USB 2.0; Pitch: 0.65mm; Supplier: Newark; Supplier Part Number: 40P3749; Manufacturer Part Number: 47589-0001; RoHS: Yes; Category: USB Connectors; Stock: 10404; Pricing: 1=0.536, 25=0.536, 100=0.492, 250=0.492, 500=0.492, 1000=0.492 (USD); Mounting Technology: Surface Mount,PCB; Contact Plating: Gold; Contact Material: Copper Alloy,Copper; Color: Black; Housing Material: Polymer; Min Operating Temperature: -20°C; Max Operating Temperature: 85°C; Packaging: Tape and Reel; Termination: Solder; Series: 47589; Voltage Rating (AC): 30V; Gender: Female; Orientation: Right Angle; Length: 8.65mm; Radiation Hardening: No; RoHS Compliant: Yes; Reach SVHC Compliant: Unknown; ComponentLink1URL: https://datasheet.ciiva.com/1098/1597783-1098478.pdf?src-supplier=Element14; ComponentLink1Description: https://datasheet.ciiva.com/1098/1597783-1098478.pdf?src-supplier=Element14; ComponentLink2URL: https://datasheet.ciiva.com/11731/0900766b80dfe0a8-11731295.pdf?src-supplier=Rs; ComponentLink2Description: https://datasheet.ciiva.com/11731/0900766b80dfe0a8-11731295.pdf?src-supplier=Rs
footprint MOLX-47589-0001_V (SMD, 5-Leads, Body 7.5x5.6mm, Pitch 0.65mm)
pins: 1 VBUS, 2 D-, 3 D+, 4 ID, 5 GND, 6 SHLD1, 7 SHLD2, 8 SHLD3, 9 SHLD4, 10 SHLD5, 11 SHLD6

## CMP-2000-06960-1
designator R?, comment Resistance: 330  (hidden comment: RC0805FR-07330RL)
Chip Resistor, 330 Ohm, +/- 1%, 125 mW, -55 to 155 degC, 0805 (2012 Metric), RoHS, Tape and Reel; Manufacturer: Yageo; Manufacturer Part Number: CRCW0805330RFKEA; Voltage Rating: 150V; Temperature Coefficient: 100PPM/C; Power Rating: 125mW(1/8W); Max Power Dissipation: 125mW; Value: 330R; Datasheet Version: Rev. 7, 05/2017; Termination Style: SMD/SMT; Case Code - mm: 2012; Package Description: 2-Pin Surface Mounted Device, Body 2 x 1.25 mm; Operating Temperature Range: -55Cto+155C; Case Code - in: 0805; Packaging: Reel; Tolerance: 1%; Package Reference: 0805; Mounting Technology: SurfaceMount; Product: ThickFilmResistorsGeneralPurpose; Series: RC; Manufacturer URL: http://www.yageo.com/; Datasheet URL: http://www.yageo.com/documents/recent/PYu-RC_Group_51_RoHS_L_7.pdf; Supplier 1: Digi-Key; Supplier Part Number 1: 311-330CRCT-ND; Manufacturer 1: Yageo; Manufacturer Part Number 1: RC0805FR-07330RL; RoHS: Yes; Category: Chip SMD Resistors; Stock 1: 1297787; Pricing 1: 1=0.10000, 10=0.03700, 100=0.01510, 1000=0.00680, 2500=0.00590 (USD); Case/Package: 0805; Case Code (Imperial): 0805; Case Code (Metric): 2012; Size Code: 0805; Min Operating Temperature: -55°C; Max Operating Temperature: 155°C; Package Quantity: 5000; Termination: SMD/SMT; Construction: Rectangular; Resistor Type: Thick Film; Number of Terminations: 2; Features: Moisture Resistant; Resistance Tolerance: 1%; Length: 0.079inch; Width: 0.049inch; Height: 0.024inch; Depth: 1.25mm; RoHS Compliant: Yes; Military Standard: Not; Lead Free: Lead Free; ComponentLink1URL: https://datasheet.ciiva.com/2457/pyu-r-int-thick-7-2457015.pdf?src-supplier=Digi-Key; ComponentLink1Description: https://datasheet.ciiva.com/2457/pyu-r-int-thick-7-2457015.pdf?src-supplier=Digi-Key; ComponentLink2URL: https://datasheet.ciiva.com/2457/pyu-r-int-thick-7-2457016.pdf?src-supplier=Digi-Key; ComponentLink2Description: https://datasheet.ciiva.com/2457/pyu-r-int-thick-7-2457016.pdf?src-supplier=Digi-Key; ComponentLink3URL: https://datasheet.ciiva.com/2457/pyu-r-int-thick-7-2457014.pdf?src-supplier=Digi-Key; ComponentLink3Description: https://datasheet.ciiva.com/2457/pyu-r-int-thick-7-2457014.pdf?src-supplier=Digi-Key; ComponentLink4URL: https://datasheet.ciiva.com/12667/rc0805-12667925.pdf?src-supplier=Mouser; ComponentLink4Description: https://datasheet.ciiva.com/12667/rc0805-12667925.pdf?src-supplier=Mouser; ComponentLink5URL: https://datasheet.ciiva.com/7941/444164-7941768.pdf?src-supplier=Element14; ComponentLink5Description: https://datasheet.ciiva.com/7941/444164-7941768.pdf?src-supplier=Element14; ComponentLink6URL: https://datasheet.ciiva.com/7941/444164-7941769.pdf?src-supplier=Element14; ComponentLink6Description: https://datasheet.ciiva.com/7941/444164-7941769.pdf?src-supplier=Element14; ComponentLink7URL: https://datasheet.ciiva.com/16740/rc0805-16740975.pdf?src-supplier=Future+Electronics; ComponentLink7Description: https://datasheet.ciiva.com/16740/rc0805-16740975.pdf?src-supplier=Future+Electronics; Supplier: Newark; Supplier Part Number: 53K0164; Stock: 218356; Pricing: 1=0.02, 25=0.02, 50=0.02, 100=0.02 (USD); Contact Plating: Tin; Weight: 0.000194oz; Voltage Rating (DC): 150V; Ratings: AEC-Q200; Reach SVHC Compliant: Unknown; ComponentLink8URL: https://datasheet.ciiva.com/8944/dcrcwe3-8944773.pdf?src-supplier=Avnet; ComponentLink8Description: https://datasheet.ciiva.com/8944/dcrcwe3-8944773.pdf?src-supplier=Avnet; ComponentLink9URL: https://datasheet.ciiva.com/8944/dcrcwe3-8944776.pdf?src-supplier=Avnet; ComponentLink9Description: https://datasheet.ciiva.com/8944/dcrcwe3-8944776.pdf?src-supplier=Avnet; ComponentLink10URL: https://datasheet.ciiva.com/7777/1697337-7777390.pdf?src-supplier=Element14; ComponentLink10Description: https://datasheet.ciiva.com/7777/1697337-7777390.pdf?src-supplier=Element14; ComponentLink11URL: https://datasheet.ciiva.com/16769/70201119-16769852.pdf?src-supplier=Allied+Electronics; ComponentLink11Description: https://datasheet.ciiva.com/16769/70201119-16769852.pdf?src-supplier=Allied+Electronics
footprint RESC2013X60X35LL10T20 (Chip Resistor, 2-Leads, Body 2.1x1.35mm, IPC High Density)
footprint RESC2013X60X35ML10T20 (Chip Resistor, 2-Leads, Body 2.1x1.35mm, IPC Low Density)
footprint RESC2013X60X35NL10T20 (Chip Resistor, 2-Leads, Body 2.1x1.35mm, IPC Medium Density)
pins: 1, 2

## CMP-2000-07587-2
designator Y?, comment 32.768KHZ
CRYSTAL 32.7680KHZ 6PF SMD; Manufacturer: Abracon; Manufacturer Part Number: ABS07-120-32.768KHZ-T; Tolerance: 20ppm; ESR (Equivalent Series Resistance): 55kR; ESR: 60kR; Supplier: Newark; Supplier Part Number: 56AC7523; RoHS: Yes; Category: Crystals; Stock: 20747; Pricing: 1=0.587, 25=0.587, 50=0.587, 100=0.587, 250=0.587, 500=0.587, 1000=0.532 (USD); Mounting Technology: Surface Mount; Case/Package: SMD/SMT; Pins: 2; Min Operating Temperature: -40°C; Max Operating Temperature: 85°C; Frequency: 32.768kHz; Load Capacitance: 6pF; Frequency Tolerance: 20ppm; Packaging: Tape and Reel; Package Quantity: 3000; Termination: SMD/SMT; Series: ABS07; Operating Frequency: 32.768 kHz; Length: 3.2mm; Width: 1.5mm; Height: 0.9mm; Depth: 1.5mm; Radiation Hardening: No; Reach SVHC Compliant: No; Lead Free: Lead Free; RoHS Compliant: Yes; ComponentLink1URL: https://datasheet.ciiva.com/6728/abs07-120-32-768khz-t-6728893.pdf?src-supplier=Digi-Key; ComponentLink1Description: https://datasheet.ciiva.com/6728/abs07-120-32-768khz-t-6728893.pdf?src-supplier=Digi-Key; ComponentLink2URL: https://datasheet.ciiva.com/12387/abs07-120-32-768khz-t-218607-12387629.pdf?src-supplier=Mouser; ComponentLink2Description: https://datasheet.ciiva.com/12387/abs07-120-32-768khz-t-218607-12387629.pdf?src-supplier=Mouser
footprint FP-ABS07-120-MFG
pins: 1, 2

## CMP-2001-00529-1
designator R?, comment value 27R  (hidden comment: ERJ6ENF27R0V)
Manufacturer: Vishay; Manufacturer Part Number: CRCW080527R0FKEAHP; Manufacturer: Panasonic; Manufacturer Part Number: ERJ-6ENF27R0V; Tolerance: 1%; Max Power Dissipation: 500mW; Temperature Coefficient: 100ppm/°C; Power Rating: 330mW; Voltage Rating (DC): 150V; Supplier: Newark; Supplier Part Number: 95AC8908; RoHS: Yes; Category: Chip SMD Resistors; Stock: 20000; Pricing: 1=0.031, 5000=0.031 (USD); Case/Package: 0805; Case Code (Metric): 2012; Case Code (Imperial): 0805; Contact Plating: Tin; Min Operating Temperature: -55°C; Max Operating Temperature: 155°C; Series: CRCW-HP; Packaging: Cut Tape; Number of Terminations: 2; Package Quantity: 5000; Features: Automotive AEC-Q200; Voltage Rating: 150V; Termination: SMD/SMT; Resistor Type: Thick Film; Resistance Tolerance: 1%; Technology: THICK FILM; Length: 0.079inch; Width: 0.049inch; Height: 0.024inch; Depth: 1.25mm; Ratings: AEC-Q200; Radiation Hardening: No; RoHS Compliant: Yes; Lead Free: Lead Free; Reach SVHC Compliant: Unknown; ComponentLink1URL: https://datasheet.ciiva.com/7672/1885357-7672983.pdf?src-supplier=Element14; ComponentLink1Description: https://datasheet.ciiva.com/7672/1885357-7672983.pdf?src-supplier=Element14; ComponentLink2URL: https://datasheet.ciiva.com/2581/crcwhpe3-2581385.pdf?src-supplier=Digi-Key; ComponentLink2Description: https://datasheet.ciiva.com/2581/crcwhpe3-2581385.pdf?src-supplier=Digi-Key; ComponentLink3URL: https://datasheet.ciiva.com/7672/1885357-7672984.pdf?src-supplier=Element14; ComponentLink3Description: https://datasheet.ciiva.com/7672/1885357-7672984.pdf?src-supplier=Element14
footprint RESC2013X70X40ML20T20 (Chip Resistor, 2-Leads, Body 2.00x1.25mm, IPC Low Density)
footprint RESC2013X70X40LL20T20 (Chip Resistor, 2-Leads, Body 2.00x1.25mm, IPC High Density)
footprint RESC2013X70X40NL20T20 (Chip Resistor, 2-Leads, Body 2.00x1.25mm, IPC Medium Density)
pins: 1, 2
1 alternate drawing of the same symbol

## CMP-2001-00580-1
designator R?, comment value 100R  (hidden comment: ERA6AEB101V)
Manufacturer: Yageo; Manufacturer Part Number: RC0805FR-07100RL; Manufacturer: Panasonic; Manufacturer Part Number: ERA-6AEB101V; Power Rating: 125mW; Tolerance: 1%; Voltage Rating: 150V; Temperature Coefficient: 100ppm/°C; Application(s): HIGH RELIABILITY; Supplier: Newark; Supplier Part Number: 98K7775; RoHS: Yes; Category: Chip SMD Resistors; Stock: 1243890; Pricing: 1=0.102, 10=0.026, 25=0.021, 50=0.017, 100=0.013 (USD); Case Code (Imperial): 0805; Case Code (Metric): 2012; Weight: 0.000917oz; Min Operating Temperature: -55°C; Max Operating Temperature: 155°C; Packaging: Cut Tape; Package Quantity: 5000; Termination: SMD/SMT; Type: General Purpose; Series: RC; Technology: THICK FILM; Length: 2mm; Width: 1.25mm; Height: 0.5mm; Lead Free: Lead Free; RoHS Compliant: Yes; ComponentLink1URL: https://datasheet.ciiva.com/7941/1697719-7941680.pdf?src-supplier=Element14; ComponentLink1Description: https://datasheet.ciiva.com/7941/1697719-7941680.pdf?src-supplier=Element14; ComponentLink2URL: https://datasheet.ciiva.com/11808/0900766b8106beab-11808877.pdf?src-supplier=Rs; ComponentLink2Description: https://datasheet.ciiva.com/11808/0900766b8106beab-11808877.pdf?src-supplier=Rs; ComponentLink3URL: https://datasheet.ciiva.com/22747/444164-22747535.pdf?src-supplier=Element14; ComponentLink3Description: https://datasheet.ciiva.com/22747/444164-22747535.pdf?src-supplier=Element14; ComponentLink4URL: https://datasheet.ciiva.com/17082/rc0805-17082697.pdf?src-supplier=Future+Electronics; ComponentLink4Description: https://datasheet.ciiva.com/17082/rc0805-17082697.pdf?src-supplier=Future+Electronics; ComponentLink5URL: https://datasheet.ciiva.com/7941/1686128-7941679.pdf?src-supplier=Element14; ComponentLink5Description: https://datasheet.ciiva.com/7941/1686128-7941679.pdf?src-supplier=Element14; ComponentLink6URL: https://datasheet.ciiva.com/46447/444164-46447562.pdf?src-supplier=Element14; ComponentLink6Description: https://datasheet.ciiva.com/46447/444164-46447562.pdf?src-supplier=Element14; ComponentLink7URL: https://datasheet.ciiva.com/7660/38627-7660797.pdf?src-supplier=Element14; ComponentLink7Description: https://datasheet.ciiva.com/7660/38627-7660797.pdf?src-supplier=Element14
footprint RESC2013X60X40ML20T25 (Chip Resistor, 2-Leads, Body 2.00x1.25mm, IPC Low Density)
footprint RESC2013X60X40LL20T25 (Chip Resistor, 2-Leads, Body 2.00x1.25mm, IPC High Density)
footprint RESC2013X60X40NL20T25 (Chip Resistor, 2-Leads, Body 2.00x1.25mm, IPC Medium Density)
pins: 1, 2
1 alternate drawing of the same symbol

## CMP-2007-00279-2
designator C?, comment value 100nF  (hidden comment: C0805C104K5RACTU)
CAP CER 0.1UF 50V X7R 0805; Manufacturer: KEMET; Tolerance: 10%; Voltage: 500V; ComponentLink2Description: Datasheet; ComponentLink2URL: https://content.kemet.com/datasheets/KEM_C1003_C0G_SMD.pdf; Supplier: Newark; Supplier Part Number: 19C6015; Manufacturer Part Number: C0805C104K5RACTU; RoHS: Yes; Category: Ceramic Capacitors; Stock: 3382390; Pricing: 1=0.024, 25=0.024, 50=0.024, 100=0.024, 250=0.024, 500=0.024, 1000=0.024 (USD); Mounting Technology: Surface Mount,PCB; Case/Package: 0805; Pins: 2; Case Code (Imperial): 0805; Case Code (Metric): 2012; Min Operating Temperature: -55°C; Max Operating Temperature: 125°C; Package Quantity: 4000; Voltage Rating: 50V; Packaging: Tape and Reel; Voltage Rating (DC): 50V; Dielectric: X7R; Termination: SMD/SMT; Series: SMD Comm X7R; Construction: Flat; Length: 2mm; Width: 1.2mm; Height: 0.9mm; Lead Pitch: 0.75mm; Depth: 1.25mm; Radiation Hardening: No; RoHS Compliant: Yes; Reach SVHC Compliant: No; ComponentLink1URL: https://datasheet.ciiva.com/32431/slceramic-chip-condensers-e-32431755.pdf?src-supplier=Distrelec; ComponentLink1Description: https://datasheet.ciiva.com/32431/slceramic-chip-condensers-e-32431755.pdf?src-supplier=Distrelec; ComponentLink3URL: https://datasheet.ciiva.com/28682/1851736-28682232.pdf?src-supplier=Element14; ComponentLink3Description: https://datasheet.ciiva.com/28682/1851736-28682232.pdf?src-supplier=Element14
footprint FP-C0805C-DN-MFG
footprint FP-C0805C-DN-IPC_C
footprint FP-C0805C-DN-IPC_B
footprint FP-C0805C-DN-IPC_A
pins: 1, 2